# EAGLE library part SAMACSYS_PARTS_67996-140HLF (library ExportCompute Module)
AMPHENOL ICC (FCI) - 67996-140HLF - CONNECTOR, HEADER, 40POS, 2ROW, 2.54MM Source: Datasheet <https://cdn.amphenol-icc.com/media/wysiwyg/files/drawing/67996.pdf>
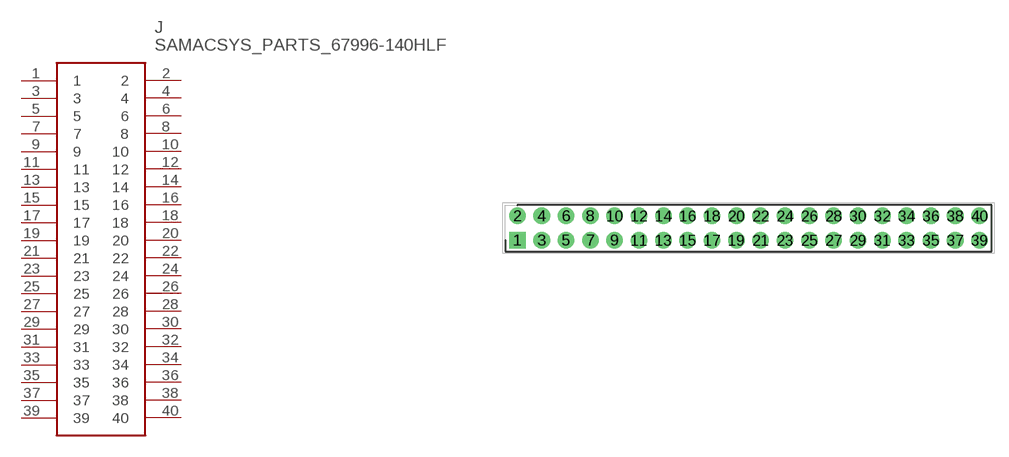
[diagram p13: symbol with the pads of SAMACSYS_PARTS_HDRV40W67P254_2X20_5080X483X85; footprint SAMACSYS_PARTS_HDRV40W67P254_2X20_5080X483X85]

Designator prefix J

## SAMACSYS_PARTS_67996-140HLF (DIGIKEY: 609-4925-ND; MANUFACTURER: Amphenol; MOUSER: 649-67996-140HLF; MPN: 67996-140HLF)  [SAMACSYS_PARTS_HDRV40W67P254_2X20_5080X483X85]
1  1
2  2
3  3
4  4
5  5
6  6
7  7
8  8
9  9
10  10
11  11
12  12
13  13
14  14
15  15
16  16
17  17
18  18
19  19
20  20
21  21
22  22
23  23
24  24
25  25
26  26
27  27
28  28
29  29
30  30
31  31
32  32
33  33
34  34
35  35
36  36
37  37
38  38
39  39
40  40

## Footprint SAMACSYS_PARTS_HDRV40W67P254_2X20_5080X483X85 (pad centres in mm)
67996-140HLF
drill 1.15 pad 1.725 square: 1 0,0
drill 1.15 pad 1.725: 2 0,2.54; 3 2.54,0; 4 2.54,2.54; 5 5.08,0; 6 5.08,2.54; 7 7.62,0; 8 7.62,2.54; 9 10.16,0; 10 10.16,2.54; 11 12.7,0; 12 12.7,2.54; 13 15.24,0; 14 15.24,2.54; 15 17.78,0; 16 17.78,2.54; 17 20.32,0; 18 20.32,2.54; 19 22.86,0; 20 22.86,2.54; 21 25.4,0; 22 25.4,2.54; 23 27.94,0; 24 27.94,2.54; 25 30.48,0; 26 30.48,2.54; 27 33.02,0; 28 33.02,2.54; 29 35.56,0; 30 35.56,2.54; 31 38.1,0; 32 38.1,2.54; 33 40.64,0; 34 40.64,2.54; 35 43.18,0; 36 43.18,2.54; 37 45.72,0; 38 45.72,2.54; 39 48.26,0; 40 48.26,2.54